# EAGLE library part MCV6 (library J-HDR2.5mm)
MCV_0,5&6-G-2,5 [PHOENIX CONTACT,1881590] CONN HEADER SHROUDED 6POS 2.5MM FK-MC_0,5&6-ST-2,5 [PHOENIX CONTACT,1881367] CONN PLUG SPRING-CAGE 6POS 2.5MM
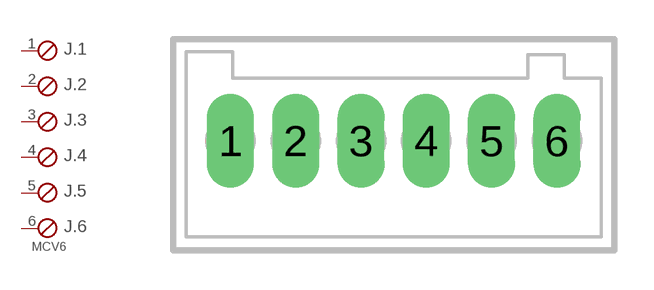
[diagram p1: symbol with the pads of MCV6; footprint MCV6]

Designator prefix J; gates .1=SKB .2=SKB .3=SKB .4=SKB .5=SKB .6=SKBV

## MCV6  [MCV6]
1  .1:1  pas
2  .2:1  pas
3  .3:1  pas
4  .4:1  pas
5  .5:1  pas
6  .6:1  pas

## Footprint MCV6 (pad centres in mm)
PHOENIX CONTACT MCV 0,5/6-G-2,5 PN: 1881590 Drill Size 3/64": .0469" (1.2mm)
drill 1.2 long: 1 0,0; 2 2.5,0; 3 5,0; 4 7.5,0; 5 10,0; 6 12.5,0